# Altium schematic symbol library Memory EEPROM.SchLib: 1 symbol
Pins are listed as number, name and electrical type; pins without a type are passive.

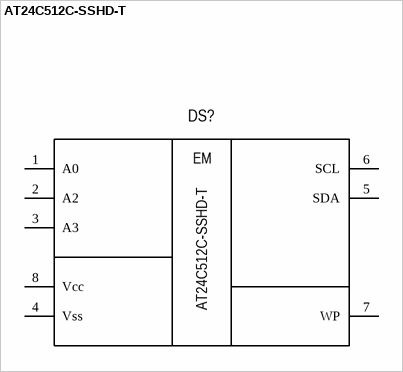
[diagram p0: symbol AT24C512C-SSHD-T]

## AT24C512C-SSHD-T
designator DS?
Memory EEPROM 512Kb (64K x 8); Manufacturer: Microchip; Group: Digital - Memory - EEPROM; Frequency: 1MHz; Voltage Supply: 2.5V - 5.5V; Interface: I²C; Package: 8-SOIC; Part name: AT24C512C-SSHD-T; Operating Temperature: -40°C +85°C; Type: EEPROM; Size: 512Kb (64K x 8); Thickness: 2.0mm; Dimension: 6.20mm x 5.05mm; Mounting Type: Surface Mount
footprint SOIC-8M (8-SOIC)
pins: 1 A0 "Chip Select", 2 A2 "Serial Data output", 3 A3 "Serial Data output", 4 Vss "Ground", 5 SDA "Hold (Reset function available upon customer request)/additional data I/O", 6 SCL "Write Protect/Enhanced Program supply voltage/additional data I/O", 7 WP "Write Protect/Enhanced Program supply voltage/additional data I/O", 8 Vcc
text: EM